# EAGLE library part AS-ITM-00200 (library tinycircuits)
IC AUDIO PROC 2ADC/4DAC 48-LQFP
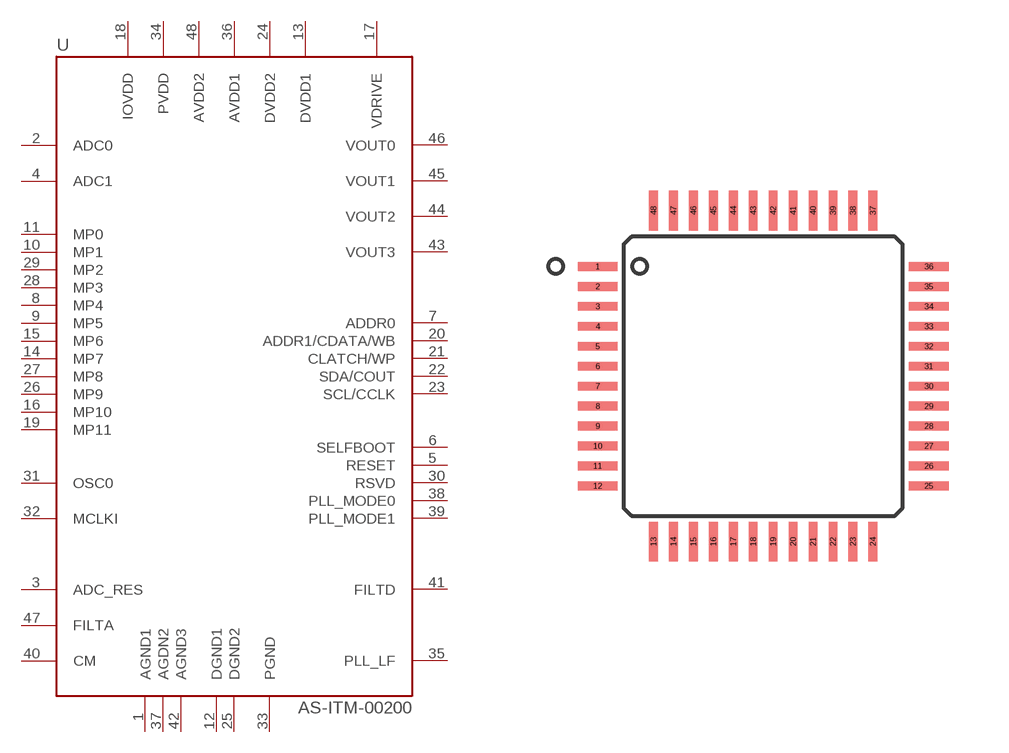
[diagram p87: symbol with the pads of LQFP(48); footprint LQFP(48)]

Designator prefix U

## AS-ITM-00200 (PARTNO: AS-ITM-0200; VALUE: ADAU1701JSTZ-RL)  [LQFP(48)]
1  AGND1
2  ADC0
3  ADC_RES
4  ADC1
5  RESET
6  SELFBOOT
7  ADDR0
8  MP4
9  MP5
10  MP1
11  MP0
12  DGND1
13  DVDD1
14  MP7
15  MP6
16  MP10
17  VDRIVE
18  IOVDD
19  MP11
20  ADDR1/CDATA/WB
21  CLATCH/WP
22  SDA/COUT
23  SCL/CCLK
24  DVDD2
25  DGND2
26  MP9
27  MP8
28  MP3
29  MP2
30  RSVD
31  OSC0
32  MCLKI
33  PGND
34  PVDD
35  PLL_LF
36  AVDD1
37  AGDN2
38  PLL_MODE0
39  PLL_MODE1
40  CM
41  FILTD
42  AGND3
43  VOUT3
44  VOUT2
45  VOUT1
46  VOUT0
47  FILTA
48  AVDD2

## Footprint LQFP(48) (pad centres in mm)
smd 1 x 0.22: 1 -4.2,2.9; 2 -4.2,2.4; 3 -4.2,1.9; 4 -4.2,1.4; 5 -4.2,0.9; 6 -4.2,0.4; 7 -4.2,-0.1; 8 -4.2,-0.6; 9 -4.2,-1.1; 10 -4.2,-1.6; 11 -4.2,-2.1; 12 -4.2,-2.6; 25 4.1,-2.6; 26 4.1,-2.1; 27 4.1,-1.6; 28 4.1,-1.1; 29 4.1,-0.6; 30 4.1,-0.1; 31 4.1,0.4; 32 4.1,0.9; 33 4.1,1.4; 34 4.1,1.9; 35 4.1,2.4; 36 4.1,2.9
smd 0.22 x 1: 13 -2.8,-4; 14 -2.3,-4; 15 -1.8,-4; 16 -1.3,-4; 17 -0.8,-4; 18 -0.3,-4; 19 0.2,-4; 20 0.7,-4; 21 1.2,-4; 22 1.7,-4; 23 2.2,-4; 24 2.7,-4; 37 2.7,4.3; 38 2.2,4.3; 39 1.7,4.3; 40 1.2,4.3; 41 0.7,4.3; 42 0.2,4.3; 43 -0.3,4.3; 44 -0.8,4.3; 45 -1.3,4.3; 46 -1.8,4.3; 47 -2.3,4.3; 48 -2.8,4.3